# EAGLE library part PMDPB58UPE (library nxp_60)
20 V dual P-channel Trench MOSFET Dual small-signal P-channel enhancement mode Field-Effect Transistor (FET) in a leadless medium power DFN2020-6 (SOT1118) Surface-Mounted Device (SMD) plastic package using Trench MOSFET technology. AAL Eindhoven MK
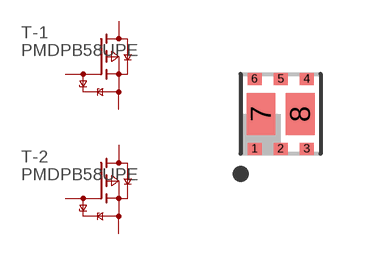
[diagram p103: symbol with the pads of SOT1118; footprint SOT1118]

Designator prefix T; gates -1=P-MOSFER-TR -2=P-MOSFER-TR

## PMDPB58UPE  [SOT1118]
1  -1:S  pas
2  -1:G  pas
3  -2:D  pas
4  -2:S  pas
5  -2:G  pas
6  -1:D  pas
7  -1:D  pas
8  -2:S  pas

## Footprint SOT1118 (pad centres in mm)
SOT1118 HUSON6: plastic, thermal enhanced ultra thin small outline package; no leads;6 terminals; body 2 x 2 x 0.65 mm JEDEC: -- IEC: -- JEITA: --
smd 0.35 x 0.3: 1 -0.65,-0.875; 2 0,-0.875; 3 0.65,-0.875; 4 0.65,0.875; 5 0,0.875; 6 -0.65,0.875
smd 0.72 x 1.05: 7 -0.49,0; 8 0.49,0